# Altium integrated library NSC MiscPower.IntLib: 1417 symbols (part 14 of 39)
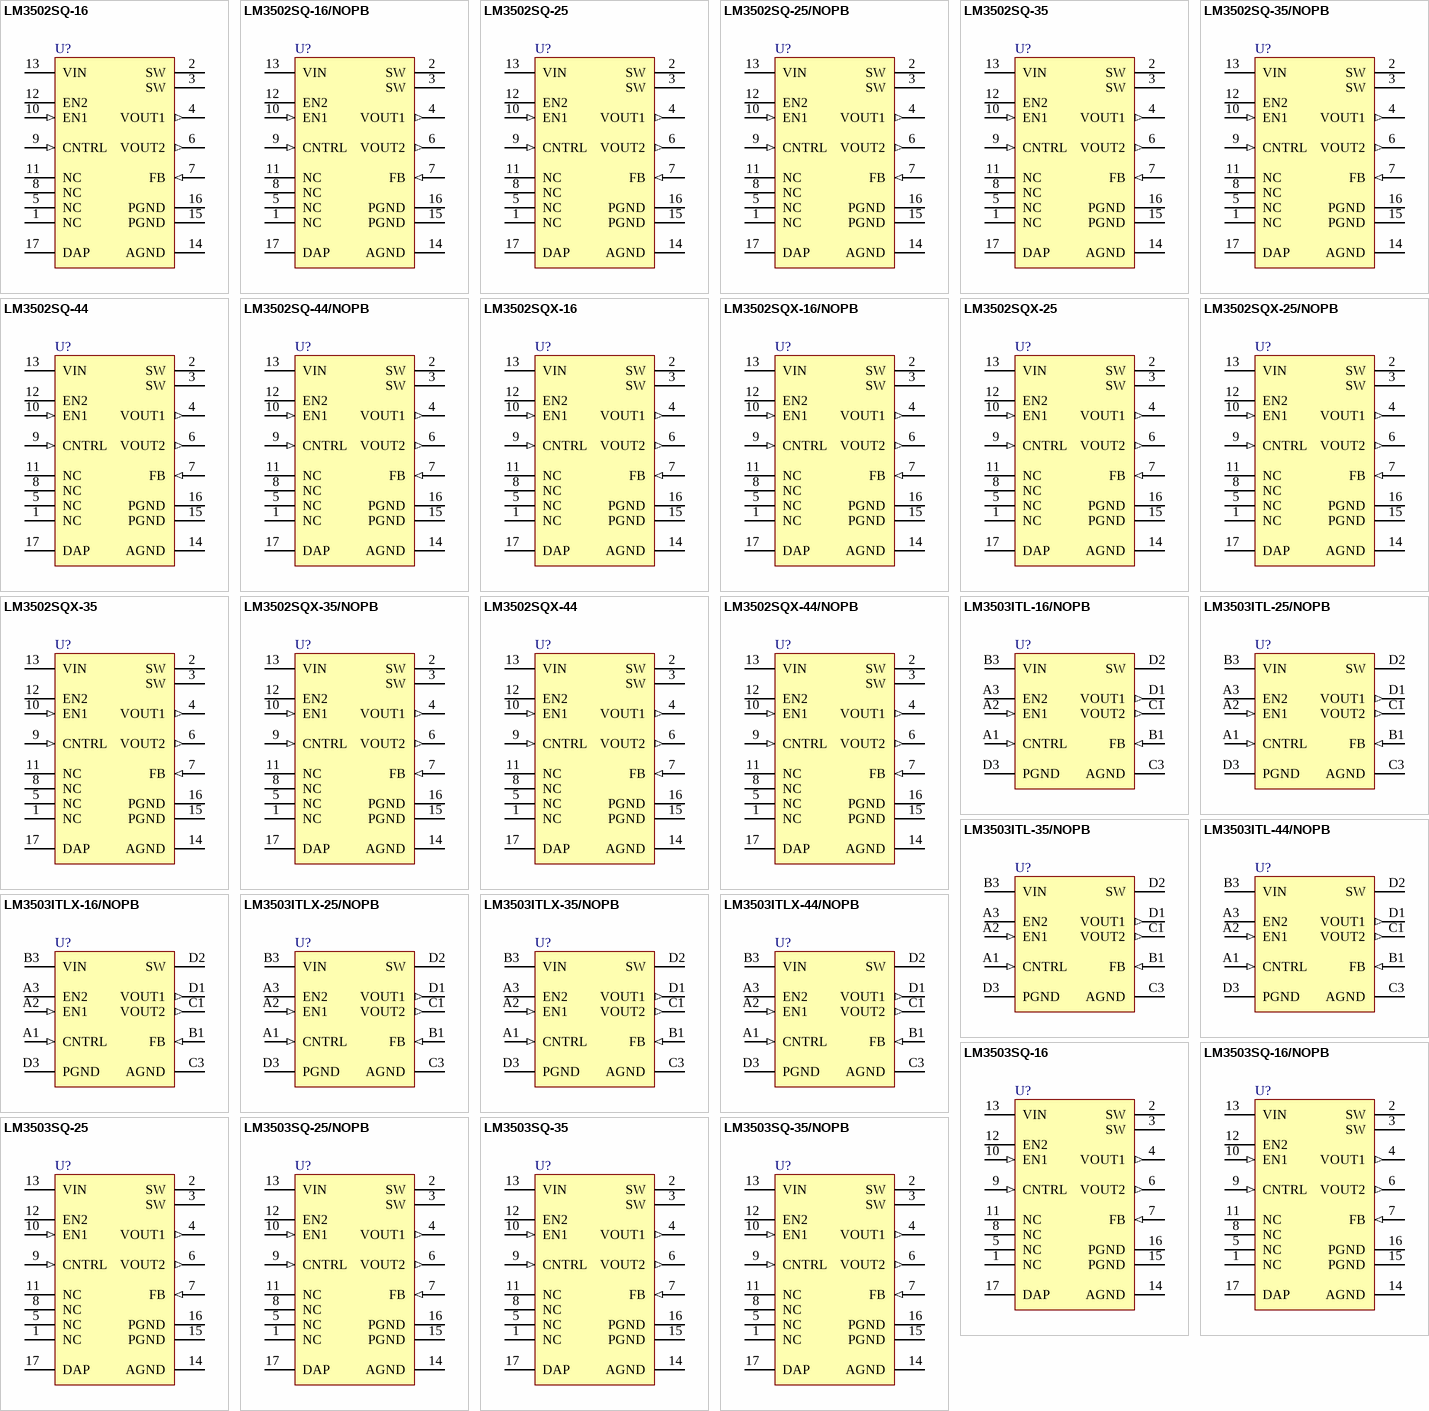
[diagram p64: symbols LM3502SQ-16 to LM3503SQ-35/NOPB]

## LM3503SQ-35/NOPB
designator U?
Dual-Display Constant Current LED Driver with Analog Brightness Control, 16-pin LLP, Pb-Free; PartNumber: LM3503SQ-35/NOPB; Manufacturer: National Semiconductor; PackageTopMarking: NS*UZXYTT*L00047B; PowerWise: Y; CompType: MiscPower; Published: 1-Mar-2010; DatasheetVersion: Aug-2006; PackageVersion: revA, Oct-2003; PackageReference: SQA16A; Publisher: Altium Limited; PackageDescription: LLP, Plastic, Quad, 4 x 4 x 0.8mm Body, 16 Lead, 0.5mm Pitch, No Pullback; Supplier 1: Digi-Key; Supplier Part Number 1: LM3503SQ-35TR-ND; Supplier 2: Digi-Key; Supplier Part Number 2: LM3503SQ-35CT-ND; Supplier 3: Digi-Key; Supplier Part Number 3: LM3503SQ-35DKR-ND; RoHS: Y; PinCount: 16; ComponentLink1Description: LM3503 Datasheet; ComponentLink1URL: http://www.national.com/ds/LM/LM3503.pdf; ComponentLink2Description: LM3503 Web Page; ComponentLink2URL: http://www.national.com/pf/LM/LM3503.html; ComponentLink3Description: SQA16A Package Page; ComponentLink3URL: http://www.national.com/packaging/folders/sqa16a.html
footprint SQA16A (QFN, 16-Leads, Body 4x4mm, Pitch 0.5mm, NSC Recommended)
pins: 1 NC, 2 SW (power), 3 SW (power), 4 VOUT1 (out), 5 NC, 6 VOUT2 (out), 7 FB (in), 8 NC, 9 CNTRL (in), 10 EN1 (in), 11 NC, 12 EN2, 13 VIN (power), 14 AGND (power), 15 PGND (power), 16 PGND (power), 17 DAP (power)

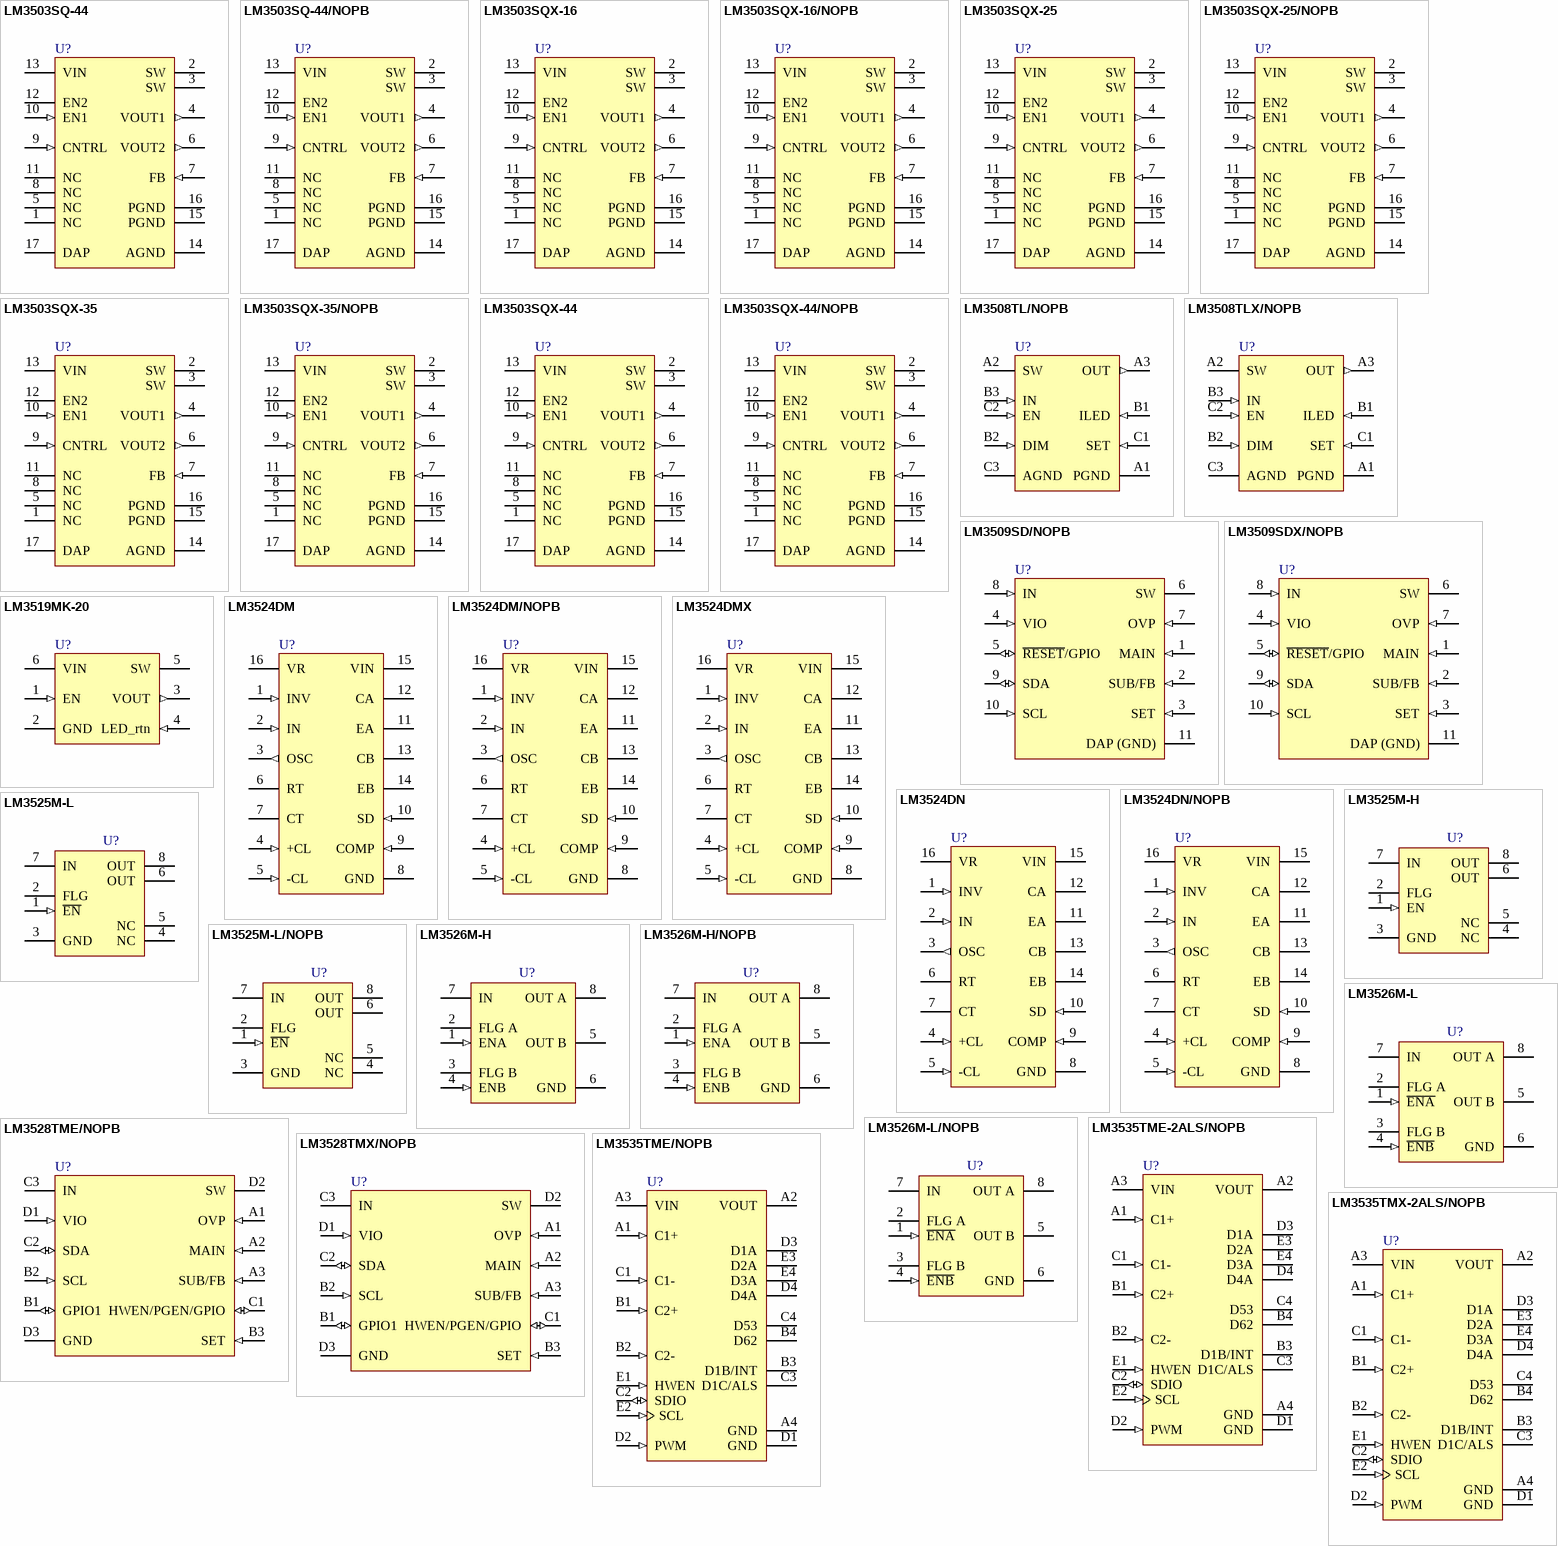
[diagram p15: symbols LM3503SQ-44 to LM3535TMX-2ALS/NOPB]

## LM3503SQ-44
designator U?
Dual-Display Constant Current LED Driver with Analog Brightness Control, 16-pin LLP; PartNumber: LM3503SQ-44; Manufacturer: National Semiconductor; PackageTopMarking: NS*UZXYTT*L00053B; PowerWise: Y; CompType: MiscPower; Published: 4-Dec-2008; DatasheetVersion: Aug-2006; PackageVersion: revA, Oct-2003; PackageReference: SQA16A; Publisher: Altium Limited; PackageDescription: LLP, Plastic, Quad, 4 x 4 x 0.8mm Body, 16 Lead, 0.5mm Pitch, No Pullback; Supplier 1: Farnell; Supplier Part Number 1: 1312579; RoHS: N; PinCount: 16; ComponentLink1Description: LM3503 Datasheet; ComponentLink1URL: http://www.national.com/ds/LM/LM3503.pdf; ComponentLink2Description: LM3503 Web Page; ComponentLink2URL: http://www.national.com/pf/LM/LM3503.html; ComponentLink3Description: SQA16A Package Page; ComponentLink3URL: http://www.national.com/packaging/folders/sqa16a.html
footprint SQA16A (QFN, 16-Leads, Body 4x4mm, Pitch 0.5mm, NSC Recommended)
pins: 1 NC, 2 SW (power), 3 SW (power), 4 VOUT1 (out), 5 NC, 6 VOUT2 (out), 7 FB (in), 8 NC, 9 CNTRL (in), 10 EN1 (in), 11 NC, 12 EN2, 13 VIN (power), 14 AGND (power), 15 PGND (power), 16 PGND (power), 17 DAP (power)

## LM3503SQ-44/NOPB
designator U?
Dual-Display Constant Current LED Driver with Analog Brightness Control, 16-pin LLP, Pb-Free; PartNumber: LM3503SQ-44/NOPB; Manufacturer: National Semiconductor; PackageTopMarking: NS*UZXYTT*L00053B; PowerWise: Y; CompType: MiscPower; Published: 1-Mar-2010; DatasheetVersion: Aug-2006; PackageVersion: revA, Oct-2003; PackageReference: SQA16A; Publisher: Altium Limited; PackageDescription: LLP, Plastic, Quad, 4 x 4 x 0.8mm Body, 16 Lead, 0.5mm Pitch, No Pullback; Supplier 1: Digi-Key; Supplier Part Number 1: LM3503SQ-44TR-ND; Supplier 2: Digi-Key; Supplier Part Number 2: LM3503SQ-44CT-ND; Supplier 3: Digi-Key; Supplier Part Number 3: LM3503SQ-44DKR-ND; RoHS: Y; PinCount: 16; ComponentLink1Description: LM3503 Datasheet; ComponentLink1URL: http://www.national.com/ds/LM/LM3503.pdf; ComponentLink2Description: LM3503 Web Page; ComponentLink2URL: http://www.national.com/pf/LM/LM3503.html; ComponentLink3Description: SQA16A Package Page; ComponentLink3URL: http://www.national.com/packaging/folders/sqa16a.html
footprint SQA16A (QFN, 16-Leads, Body 4x4mm, Pitch 0.5mm, NSC Recommended)
pins: 1 NC, 2 SW (power), 3 SW (power), 4 VOUT1 (out), 5 NC, 6 VOUT2 (out), 7 FB (in), 8 NC, 9 CNTRL (in), 10 EN1 (in), 11 NC, 12 EN2, 13 VIN (power), 14 AGND (power), 15 PGND (power), 16 PGND (power), 17 DAP (power)

## LM3503SQX-16
designator U?
Dual-Display Constant Current LED Driver with Analog Brightness Control, 16-pin LLP; PartNumber: LM3503SQX-16; Manufacturer: National Semiconductor; PackageTopMarking: NS*UZXYTT*L00045B; PowerWise: Y; CompType: MiscPower; Published: 1-Mar-2010; DatasheetVersion: Aug-2006; PackageVersion: revA, Oct-2003; PackageReference: SQA16A; Publisher: Altium Limited; PackageDescription: LLP, Plastic, Quad, 4 x 4 x 0.8mm Body, 16 Lead, 0.5mm Pitch, No Pullback; RoHS: N; PinCount: 16; ComponentLink1Description: LM3503 Datasheet; ComponentLink1URL: http://www.national.com/ds/LM/LM3503.pdf; ComponentLink2Description: LM3503 Web Page; ComponentLink2URL: http://www.national.com/pf/LM/LM3503.html; ComponentLink3Description: SQA16A Package Page; ComponentLink3URL: http://www.national.com/packaging/folders/sqa16a.html
footprint SQA16A (QFN, 16-Leads, Body 4x4mm, Pitch 0.5mm, NSC Recommended)
pins: 1 NC, 2 SW (power), 3 SW (power), 4 VOUT1 (out), 5 NC, 6 VOUT2 (out), 7 FB (in), 8 NC, 9 CNTRL (in), 10 EN1 (in), 11 NC, 12 EN2, 13 VIN (power), 14 AGND (power), 15 PGND (power), 16 PGND (power), 17 DAP (power)

## LM3503SQX-16/NOPB
designator U?
Dual-Display Constant Current LED Driver with Analog Brightness Control, 16-pin LLP, Pb-Free; PartNumber: LM3503SQX-16/NOPB; Manufacturer: National Semiconductor; PackageTopMarking: NS*UZXYTT*L00045B; PowerWise: Y; CompType: MiscPower; Published: 1-Mar-2010; DatasheetVersion: Aug-2006; PackageVersion: revA, Oct-2003; PackageReference: SQA16A; Publisher: Altium Limited; PackageDescription: LLP, Plastic, Quad, 4 x 4 x 0.8mm Body, 16 Lead, 0.5mm Pitch, No Pullback; Supplier 1: Digi-Key; Supplier Part Number 1: LM3503SQX-16-ND; RoHS: Y; PinCount: 16; ComponentLink1Description: LM3503 Datasheet; ComponentLink1URL: http://www.national.com/ds/LM/LM3503.pdf; ComponentLink2Description: LM3503 Web Page; ComponentLink2URL: http://www.national.com/pf/LM/LM3503.html; ComponentLink3Description: SQA16A Package Page; ComponentLink3URL: http://www.national.com/packaging/folders/sqa16a.html
footprint SQA16A (QFN, 16-Leads, Body 4x4mm, Pitch 0.5mm, NSC Recommended)
pins: 1 NC, 2 SW (power), 3 SW (power), 4 VOUT1 (out), 5 NC, 6 VOUT2 (out), 7 FB (in), 8 NC, 9 CNTRL (in), 10 EN1 (in), 11 NC, 12 EN2, 13 VIN (power), 14 AGND (power), 15 PGND (power), 16 PGND (power), 17 DAP (power)

## LM3503SQX-25
designator U?
Dual-Display Constant Current LED Driver with Analog Brightness Control, 16-pin LLP; PartNumber: LM3503SQX-25; Manufacturer: National Semiconductor; PackageTopMarking: NS*UZXYTT*L00046B; PowerWise: Y; CompType: MiscPower; Published: 1-Mar-2010; DatasheetVersion: Aug-2006; PackageVersion: revA, Oct-2003; PackageReference: SQA16A; Publisher: Altium Limited; PackageDescription: LLP, Plastic, Quad, 4 x 4 x 0.8mm Body, 16 Lead, 0.5mm Pitch, No Pullback; RoHS: N; PinCount: 16; ComponentLink1Description: LM3503 Datasheet; ComponentLink1URL: http://www.national.com/ds/LM/LM3503.pdf; ComponentLink2Description: LM3503 Web Page; ComponentLink2URL: http://www.national.com/pf/LM/LM3503.html; ComponentLink3Description: SQA16A Package Page; ComponentLink3URL: http://www.national.com/packaging/folders/sqa16a.html
footprint SQA16A (QFN, 16-Leads, Body 4x4mm, Pitch 0.5mm, NSC Recommended)
pins: 1 NC, 2 SW (power), 3 SW (power), 4 VOUT1 (out), 5 NC, 6 VOUT2 (out), 7 FB (in), 8 NC, 9 CNTRL (in), 10 EN1 (in), 11 NC, 12 EN2, 13 VIN (power), 14 AGND (power), 15 PGND (power), 16 PGND (power), 17 DAP (power)

## LM3503SQX-25/NOPB
designator U?
Dual-Display Constant Current LED Driver with Analog Brightness Control, 16-pin LLP, Pb-Free; PartNumber: LM3503SQX-25/NOPB; Manufacturer: National Semiconductor; PackageTopMarking: NS*UZXYTT*L00046B; PowerWise: Y; CompType: MiscPower; Published: 1-Mar-2010; DatasheetVersion: Aug-2006; PackageVersion: revA, Oct-2003; PackageReference: SQA16A; Publisher: Altium Limited; PackageDescription: LLP, Plastic, Quad, 4 x 4 x 0.8mm Body, 16 Lead, 0.5mm Pitch, No Pullback; Supplier 1: Digi-Key; Supplier Part Number 1: LM3503SQX-25-ND; RoHS: Y; PinCount: 16; ComponentLink1Description: LM3503 Datasheet; ComponentLink1URL: http://www.national.com/ds/LM/LM3503.pdf; ComponentLink2Description: LM3503 Web Page; ComponentLink2URL: http://www.national.com/pf/LM/LM3503.html; ComponentLink3Description: SQA16A Package Page; ComponentLink3URL: http://www.national.com/packaging/folders/sqa16a.html
footprint SQA16A (QFN, 16-Leads, Body 4x4mm, Pitch 0.5mm, NSC Recommended)
pins: 1 NC, 2 SW (power), 3 SW (power), 4 VOUT1 (out), 5 NC, 6 VOUT2 (out), 7 FB (in), 8 NC, 9 CNTRL (in), 10 EN1 (in), 11 NC, 12 EN2, 13 VIN (power), 14 AGND (power), 15 PGND (power), 16 PGND (power), 17 DAP (power)

## LM3503SQX-35
designator U?
Dual-Display Constant Current LED Driver with Analog Brightness Control, 16-pin LLP; PartNumber: LM3503SQX-35; Manufacturer: National Semiconductor; PackageTopMarking: NS*UZXYTT*L00047B; PowerWise: Y; CompType: MiscPower; Published: 1-Mar-2010; DatasheetVersion: Aug-2006; PackageVersion: revA, Oct-2003; PackageReference: SQA16A; Publisher: Altium Limited; PackageDescription: LLP, Plastic, Quad, 4 x 4 x 0.8mm Body, 16 Lead, 0.5mm Pitch, No Pullback; RoHS: N; PinCount: 16; ComponentLink1Description: LM3503 Datasheet; ComponentLink1URL: http://www.national.com/ds/LM/LM3503.pdf; ComponentLink2Description: LM3503 Web Page; ComponentLink2URL: http://www.national.com/pf/LM/LM3503.html; ComponentLink3Description: SQA16A Package Page; ComponentLink3URL: http://www.national.com/packaging/folders/sqa16a.html
footprint SQA16A (QFN, 16-Leads, Body 4x4mm, Pitch 0.5mm, NSC Recommended)
pins: 1 NC, 2 SW (power), 3 SW (power), 4 VOUT1 (out), 5 NC, 6 VOUT2 (out), 7 FB (in), 8 NC, 9 CNTRL (in), 10 EN1 (in), 11 NC, 12 EN2, 13 VIN (power), 14 AGND (power), 15 PGND (power), 16 PGND (power), 17 DAP (power)

## LM3503SQX-35/NOPB
designator U?
Dual-Display Constant Current LED Driver with Analog Brightness Control, 16-pin LLP, Pb-Free; PartNumber: LM3503SQX-35/NOPB; Manufacturer: National Semiconductor; PackageTopMarking: NS*UZXYTT*L00047B; PowerWise: Y; CompType: MiscPower; Published: 1-Mar-2010; DatasheetVersion: Aug-2006; PackageVersion: revA, Oct-2003; PackageReference: SQA16A; Publisher: Altium Limited; PackageDescription: LLP, Plastic, Quad, 4 x 4 x 0.8mm Body, 16 Lead, 0.5mm Pitch, No Pullback; Supplier 1: Digi-Key; Supplier Part Number 1: LM3503SQX-35-ND; RoHS: Y; PinCount: 16; ComponentLink1Description: LM3503 Datasheet; ComponentLink1URL: http://www.national.com/ds/LM/LM3503.pdf; ComponentLink2Description: LM3503 Web Page; ComponentLink2URL: http://www.national.com/pf/LM/LM3503.html; ComponentLink3Description: SQA16A Package Page; ComponentLink3URL: http://www.national.com/packaging/folders/sqa16a.html
footprint SQA16A (QFN, 16-Leads, Body 4x4mm, Pitch 0.5mm, NSC Recommended)
pins: 1 NC, 2 SW (power), 3 SW (power), 4 VOUT1 (out), 5 NC, 6 VOUT2 (out), 7 FB (in), 8 NC, 9 CNTRL (in), 10 EN1 (in), 11 NC, 12 EN2, 13 VIN (power), 14 AGND (power), 15 PGND (power), 16 PGND (power), 17 DAP (power)

## LM3503SQX-44
designator U?
Dual-Display Constant Current LED Driver with Analog Brightness Control, 16-pin LLP; PartNumber: LM3503SQX-44; Manufacturer: National Semiconductor; PackageTopMarking: NS*UZXYTT*L00053B; PowerWise: Y; CompType: MiscPower; Published: 1-Mar-2010; DatasheetVersion: Aug-2006; PackageVersion: revA, Oct-2003; PackageReference: SQA16A; Publisher: Altium Limited; PackageDescription: LLP, Plastic, Quad, 4 x 4 x 0.8mm Body, 16 Lead, 0.5mm Pitch, No Pullback; RoHS: N; PinCount: 16; ComponentLink1Description: LM3503 Datasheet; ComponentLink1URL: http://www.national.com/ds/LM/LM3503.pdf; ComponentLink2Description: LM3503 Web Page; ComponentLink2URL: http://www.national.com/pf/LM/LM3503.html; ComponentLink3Description: SQA16A Package Page; ComponentLink3URL: http://www.national.com/packaging/folders/sqa16a.html
footprint SQA16A (QFN, 16-Leads, Body 4x4mm, Pitch 0.5mm, NSC Recommended)
pins: 1 NC, 2 SW (power), 3 SW (power), 4 VOUT1 (out), 5 NC, 6 VOUT2 (out), 7 FB (in), 8 NC, 9 CNTRL (in), 10 EN1 (in), 11 NC, 12 EN2, 13 VIN (power), 14 AGND (power), 15 PGND (power), 16 PGND (power), 17 DAP (power)

## LM3503SQX-44/NOPB
designator U?
Dual-Display Constant Current LED Driver with Analog Brightness Control, 16-pin LLP, Pb-Free; PartNumber: LM3503SQX-44/NOPB; Manufacturer: National Semiconductor; PackageTopMarking: NS*UZXYTT*L00053B; PowerWise: Y; CompType: MiscPower; Published: 1-Mar-2010; DatasheetVersion: Aug-2006; PackageVersion: revA, Oct-2003; PackageReference: SQA16A; Publisher: Altium Limited; PackageDescription: LLP, Plastic, Quad, 4 x 4 x 0.8mm Body, 16 Lead, 0.5mm Pitch, No Pullback; RoHS: Y; PinCount: 16; ComponentLink1Description: LM3503 Datasheet; ComponentLink1URL: http://www.national.com/ds/LM/LM3503.pdf; ComponentLink2Description: LM3503 Web Page; ComponentLink2URL: http://www.national.com/pf/LM/LM3503.html; ComponentLink3Description: SQA16A Package Page; ComponentLink3URL: http://www.national.com/packaging/folders/sqa16a.html
footprint SQA16A (QFN, 16-Leads, Body 4x4mm, Pitch 0.5mm, NSC Recommended)
pins: 1 NC, 2 SW (power), 3 SW (power), 4 VOUT1 (out), 5 NC, 6 VOUT2 (out), 7 FB (in), 8 NC, 9 CNTRL (in), 10 EN1 (in), 11 NC, 12 EN2, 13 VIN (power), 14 AGND (power), 15 PGND (power), 16 PGND (power), 17 DAP (power)

## LM3508TL/NOPB
designator U?
Synchronous Magnetic Constant Current White LED Driver, 9-pin Micro SMD, Pb-Free; PartNumber: LM3508TL/NOPB; Manufacturer: National Semiconductor; PackageTopMarking: XVD*I 31; PowerWise: Y; CompType: MiscPower; Published: 1-Mar-2010; DatasheetVersion: Mar-2008; PackageVersion: revC, Jan-2004; PackageReference: TLA09AAA; Publisher: Altium Limited; PackageDescription: Thin Micro SMD, 9 Bump (Large), 0.5mm Pitch; Supplier 1: Digi-Key; Supplier Part Number 1: LM3508TLTR-ND; Supplier 2: Digi-Key; Supplier Part Number 2: LM3508TLCT-ND; Supplier 3: Digi-Key; Supplier Part Number 3: LM3508TLDKR-ND; RoHS: Y; PinCount: 9; Code_JEDEC: MO-211-DD; ComponentLink1Description: LM3508 Datasheet; ComponentLink1URL: http://www.national.com/ds/LM/LM3508.pdf; ComponentLink2Description: LM3508 Web Page; ComponentLink2URL: http://www.national.com/pf/LM/LM3508.html; ComponentLink3Description: TLA09AAA Package Page; ComponentLink3URL: http://www.national.com/packaging/folders/tla09aaa.html
footprint TLA09AAA (Micro SMD, 9-Leads, Body 1.52x1.52mm, Pitch 0.5mm, NSC Recommended)
pins: A1 PGND (power), A2 SW (power), A3 OUT (out), B1 ILED (in), B2 DIM (in), B3 IN (in), C1 SET (in), C2 EN (in), C3 AGND (power)

## LM3508TLX/NOPB
designator U?
Synchronous Magnetic Constant Current White LED Driver, 9-pin Micro SMD, Pb-Free; PartNumber: LM3508TLX/NOPB; Manufacturer: National Semiconductor; PackageTopMarking: XVD*I 31; PowerWise: Y; CompType: MiscPower; Published: 1-Mar-2010; DatasheetVersion: Mar-2008; PackageVersion: revC, Jan-2004; PackageReference: TLA09AAA; Publisher: Altium Limited; PackageDescription: Thin Micro SMD, 9 Bump (Large), 0.5mm Pitch; Supplier 1: Digi-Key; Supplier Part Number 1: LM3508TLX-ND; RoHS: Y; PinCount: 9; Code_JEDEC: MO-211-DD; ComponentLink1Description: LM3508 Datasheet; ComponentLink1URL: http://www.national.com/ds/LM/LM3508.pdf; ComponentLink2Description: LM3508 Web Page; ComponentLink2URL: http://www.national.com/pf/LM/LM3508.html; ComponentLink3Description: TLA09AAA Package Page; ComponentLink3URL: http://www.national.com/packaging/folders/tla09aaa.html
footprint TLA09AAA (Micro SMD, 9-Leads, Body 1.52x1.52mm, Pitch 0.5mm, NSC Recommended)
pins: A1 PGND (power), A2 SW (power), A3 OUT (out), B1 ILED (in), B2 DIM (in), B3 IN (in), C1 SET (in), C2 EN (in), C3 AGND (power)

## LM3509SD/NOPB
designator U?
High Efficiency Boost for White LED's and/or OLED Displays with Dual Current Sinks and IC Compatible Brightness Control, 10-pin LLP, Pb-Free; PartNumber: LM3509SD/NOPB; Manufacturer: National Semiconductor; PackageTopMarking: ZXYTT*L3509; PowerWise: Y; CompType: MiscPower; Published: 1-Mar-2010; DatasheetVersion: Mar-2008; PackageVersion: revA, Oct-2003; PackageReference: SDA10A; Publisher: Altium Limited; PackageDescription: LLP, Plastic, Dual, 3 x 3 x 0.8mm Body, 10 Lead, 0.5mm Pitch, No Pullback; Supplier 1: Digi-Key; Supplier Part Number 1: LM3509SDTR-ND; Supplier 2: Digi-Key; Supplier Part Number 2: LM3509SDCT-ND; Supplier 3: Digi-Key; Supplier Part Number 3: LM3509SDDKR-ND; RoHS: Y; PinCount: 10; ComponentLink1Description: LM3509 Datasheet; ComponentLink1URL: http://www.national.com/ds/LM/LM3509.pdf; ComponentLink2Description: LM3509 Web Page; ComponentLink2URL: http://www.national.com/pf/LM/LM3509.html; ComponentLink3Description: SDA10A Package Page; ComponentLink3URL: http://www.national.com/packaging/folders/sda10a.html
footprint SDA10A (SON, 10-Leads, Body 3x3 mm, Pitch 0.5mm, NSC Recommended)
pins: 1 MAIN (in), 2 SUB/FB (in), 3 SET (in), 4 VIO (in), 5 ~{RESET}/GPIO (io), 6 SW (power), 7 OVP (in), 8 IN (in), 9 SDA (io), 10 SCL (in), 11 DAP (GND) (power)

## LM3509SDX/NOPB
designator U?
High Efficiency Boost for White LED's and/or OLED Displays with Dual Current Sinks and IC Compatible Brightness Control, 10-pin LLP, Pb-Free; PartNumber: LM3509SDX/NOPB; Manufacturer: National Semiconductor; PackageTopMarking: ZXYTT*L3509; PowerWise: Y; CompType: MiscPower; Published: 1-Mar-2010; DatasheetVersion: Mar-2008; PackageVersion: revA, Oct-2003; PackageReference: SDA10A; Publisher: Altium Limited; PackageDescription: LLP, Plastic, Dual, 3 x 3 x 0.8mm Body, 10 Lead, 0.5mm Pitch, No Pullback; Supplier 1: Digi-Key; Supplier Part Number 1: LM3509SDX-ND; RoHS: Y; PinCount: 10; ComponentLink1Description: LM3509 Datasheet; ComponentLink1URL: http://www.national.com/ds/LM/LM3509.pdf; ComponentLink2Description: LM3509 Web Page; ComponentLink2URL: http://www.national.com/pf/LM/LM3509.html; ComponentLink3Description: SDA10A Package Page; ComponentLink3URL: http://www.national.com/packaging/folders/sda10a.html
footprint SDA10A (SON, 10-Leads, Body 3x3 mm, Pitch 0.5mm, NSC Recommended)
pins: 1 MAIN (in), 2 SUB/FB (in), 3 SET (in), 4 VIO (in), 5 ~{RESET}/GPIO (io), 6 SW (power), 7 OVP (in), 8 IN (in), 9 SDA (io), 10 SCL (in), 11 DAP (GND) (power)

## LM3519MK-20
designator U?
High Frequency Boost White LED Driver with High-Speed PWM Brightness Control, 6-pin Tiny SOT23; PartNumber: LM3519MK-20; Manufacturer: National Semiconductor; PackageTopMarking: D52B*XTT; PowerWise: Y; CompType: MiscPower; Published: 4-Dec-2008; DatasheetVersion: Sep-2005; PackageVersion: revE, Nov-2008; PackageReference: MK06A; Publisher: Altium Limited; PackageDescription: Molded TSOT, 2.97 x 1.65 x 0.87mm Body, 6 Lead, 0.95mm Pitch; Supplier 1: Farnell; Supplier Part Number 1: 1312717; RoHS: N; PinCount: 6; Code_JEDEC: MO-193-AA; Code_IPC: SOT26A-6; ComponentLink1Description: LM3519 Datasheet; ComponentLink1URL: http://www.national.com/ds/LM/LM3519.pdf; ComponentLink2Description: LM3519 Web Page; ComponentLink2URL: http://www.national.com/pf/LM/LM3519.html; ComponentLink3Description: MK06A Package Page; ComponentLink3URL: http://www.national.com/packaging/folders/mk06a.html
footprint MK06A_N (SOT23, 6-Leads, Body 3.0x1.7mm, Pitch 0.95mm, Lead Span 2.9mm, IPC Medium Density)
footprint MK06A_L (SOT23, 6-Leads, Body 3.0x1.7mm, Pitch 0.95mm, Lead Span 2.9mm, IPC High Density)
footprint MK06A_M (SOT23, 6-Leads, Body 3.0x1.7mm, Pitch 0.95mm, Lead Span 2.9mm, IPC Low Density)
pins: 1 EN (in), 2 GND (power), 3 VOUT (out), 4 LED_rtn (in), 5 SW (power), 6 VIN (power)

## LM3524DM
designator U?
Regulating Pulse Width Modulator, 16-pin Narrow SOIC; PartNumber: LM3524DM; Manufacturer: National Semiconductor; PackageTopMarking: NSUZXYTTE#*LM3524DM; PowerWise: N; CompType: MiscPower; Published: 4-Dec-2008; DatasheetVersion: May-2008; PackageVersion: revJ, Aug-1995; PackageReference: M16A; Publisher: Altium Limited; PackageDescription: Molded Package, SO, .150in Wide, 16 Lead; RoHS: N; PinCount: 16; Code_JEDEC: MS-012-AC; Code_IPC: SOIC127P600-16; ComponentLink1Description: LM3524D Datasheet; ComponentLink1URL: http://www.national.com/ds/LM/LM3524D.pdf; ComponentLink2Description: LM3524D Web Page; ComponentLink2URL: http://www.national.com/pf/LM/LM3524D.html; ComponentLink3Description: M16A Package Page; ComponentLink3URL: http://www.national.com/packaging/folders/m16a.html
footprint M16A_N (SOIC, 16-Leads, Body 9.9x3.9mm, Pitch 1.27mm, IPC Medium Density)
footprint M16A_L (SOIC, 16-Leads, Body 9.9x3.9mm, Pitch 1.27mm, IPC High Density)
footprint M16A_M (SOIC, 16-Leads, Body 9.9x3.9mm, Pitch 1.27mm, IPC Low Density)
pins: 1 INV (in), 2 IN (in), 3 OSC (out), 4 +CL (in), 5 -CL (in), 6 RT, 7 CT, 8 GND (power), 9 COMP (in), 10 SD (in), 11 EA, 12 CA, 13 CB, 14 EB, 15 VIN (power), 16 VR (power)

## LM3524DM/NOPB
designator U?
Regulating Pulse Width Modulator, 16-pin Narrow SOIC, Pb-Free; PartNumber: LM3524DM/NOPB; Manufacturer: National Semiconductor; PackageTopMarking: NSUZXYTTE#*LM3524DM; PowerWise: N; CompType: MiscPower; Published: 1-Mar-2010; DatasheetVersion: May-2008; PackageVersion: revJ, Aug-1995; PackageReference: M16A; Publisher: Altium Limited; PackageDescription: Molded Package, SO, .150in Wide, 16 Lead; Supplier 1: Digi-Key; Supplier Part Number 1: LM3524DM-ND; Supplier 2: Farnell; Supplier Part Number 2: 1469254; RoHS: Y; PinCount: 16; Code_JEDEC: MS-012-AC; Code_IPC: SOIC127P600-16; ComponentLink1Description: LM3524D Datasheet; ComponentLink1URL: http://www.national.com/ds/LM/LM3524D.pdf; ComponentLink2Description: LM3524D Web Page; ComponentLink2URL: http://www.national.com/pf/LM/LM3524D.html; ComponentLink3Description: M16A Package Page; ComponentLink3URL: http://www.national.com/packaging/folders/m16a.html
footprint M16A_N (SOIC, 16-Leads, Body 9.9x3.9mm, Pitch 1.27mm, IPC Medium Density)
footprint M16A_L (SOIC, 16-Leads, Body 9.9x3.9mm, Pitch 1.27mm, IPC High Density)
footprint M16A_M (SOIC, 16-Leads, Body 9.9x3.9mm, Pitch 1.27mm, IPC Low Density)
pins: 1 INV (in), 2 IN (in), 3 OSC (out), 4 +CL (in), 5 -CL (in), 6 RT, 7 CT, 8 GND (power), 9 COMP (in), 10 SD (in), 11 EA, 12 CA, 13 CB, 14 EB, 15 VIN (power), 16 VR (power)

## LM3524DMX
designator U?
Regulating Pulse Width Modulator, 16-pin Narrow SOIC; PartNumber: LM3524DMX; Manufacturer: National Semiconductor; PackageTopMarking: NSUZXYTTE#*LM3524DM; PowerWise: N; CompType: MiscPower; Published: 1-Mar-2010; DatasheetVersion: May-2008; PackageVersion: revJ, Aug-1995; PackageReference: M16A; Publisher: Altium Limited; PackageDescription: Molded Package, SO, .150in Wide, 16 Lead; RoHS: N; PinCount: 16; Code_JEDEC: MS-012-AC; Code_IPC: SOIC127P600-16; ComponentLink1Description: LM3524D Datasheet; ComponentLink1URL: http://www.national.com/ds/LM/LM3524D.pdf; ComponentLink2Description: LM3524D Web Page; ComponentLink2URL: http://www.national.com/pf/LM/LM3524D.html; ComponentLink3Description: M16A Package Page; ComponentLink3URL: http://www.national.com/packaging/folders/m16a.html
footprint M16A_N (SOIC, 16-Leads, Body 9.9x3.9mm, Pitch 1.27mm, IPC Medium Density)
footprint M16A_L (SOIC, 16-Leads, Body 9.9x3.9mm, Pitch 1.27mm, IPC High Density)
footprint M16A_M (SOIC, 16-Leads, Body 9.9x3.9mm, Pitch 1.27mm, IPC Low Density)
pins: 1 INV (in), 2 IN (in), 3 OSC (out), 4 +CL (in), 5 -CL (in), 6 RT, 7 CT, 8 GND (power), 9 COMP (in), 10 SD (in), 11 EA, 12 CA, 13 CB, 14 EB, 15 VIN (power), 16 VR (power)

## LM3524DN
designator U?
Regulating Pulse Width Modulator, 16-pin MDIP; PartNumber: LM3524DN; Manufacturer: National Semiconductor; PackageTopMarking: NSUZXYYTTE#*LM3524DN; PowerWise: N; CompType: MiscPower; Published: 4-Dec-2008; DatasheetVersion: May-2008; PackageVersion: revG, May-2006; PackageReference: N16E; Publisher: Altium Limited; PackageDescription: MDIP, .750 x .250 x .130in, 16 Lead, .100in Pitch; Supplier 1: Farnell; Supplier Part Number 1: 9488162; RoHS: N; PinCount: 16; Code_JEDEC: MS-001-BB; ComponentLink1Description: LM3524D Datasheet; ComponentLink1URL: http://www.national.com/ds/LM/LM3524D.pdf; ComponentLink2Description: LM3524D Web Page; ComponentLink2URL: http://www.national.com/pf/LM/LM3524D.html; ComponentLink3Description: N16E Package Page; ComponentLink3URL: http://www.national.com/packaging/folders/n16e.html
footprint N16E (DIP, 16-Leads, Row Spacing 7.62mm, Pitch 2.54mm, Body 19.3x6.35mm)
pins: 1 INV (in), 2 IN (in), 3 OSC (out), 4 +CL (in), 5 -CL (in), 6 RT, 7 CT, 8 GND (power), 9 COMP (in), 10 SD (in), 11 EA, 12 CA, 13 CB, 14 EB, 15 VIN (power), 16 VR (power)

## LM3524DN/NOPB
designator U?
Regulating Pulse Width Modulator, 16-pin MDIP, Pb-Free; PartNumber: LM3524DN/NOPB; Manufacturer: National Semiconductor; PackageTopMarking: NSUZXYYTTE#*LM3524DN; PowerWise: N; CompType: MiscPower; Published: 1-Mar-2010; DatasheetVersion: May-2008; PackageVersion: revG, May-2006; PackageReference: N16E; Publisher: Altium Limited; PackageDescription: MDIP, .750 x .250 x .130in, 16 Lead, .100in Pitch; Supplier 1: Digi-Key; Supplier Part Number 1: LM3524DN-ND; RoHS: Y; PinCount: 16; Code_JEDEC: MS-001-BB; ComponentLink1Description: LM3524D Datasheet; ComponentLink1URL: http://www.national.com/ds/LM/LM3524D.pdf; ComponentLink2Description: LM3524D Web Page; ComponentLink2URL: http://www.national.com/pf/LM/LM3524D.html; ComponentLink3Description: N16E Package Page; ComponentLink3URL: http://www.national.com/packaging/folders/n16e.html
footprint N16E (DIP, 16-Leads, Row Spacing 7.62mm, Pitch 2.54mm, Body 19.3x6.35mm)
pins: 1 INV (in), 2 IN (in), 3 OSC (out), 4 +CL (in), 5 -CL (in), 6 RT, 7 CT, 8 GND (power), 9 COMP (in), 10 SD (in), 11 EA, 12 CA, 13 CB, 14 EB, 15 VIN (power), 16 VR (power)

## LM3525M-H
designator U?
Single Port USB Power Switch and Over-Current Protection, 8-pin Narrow SOIC; PartNumber: LM3525M-H; Manufacturer: National Semiconductor; PackageTopMarking: NSZXTT*3525*M-H; PowerWise: N; CompType: MiscPower; Published: 4-Dec-2008; DatasheetVersion: Mar-2005; PackageVersion: revM, May-2009; PackageReference: M08A; Publisher: Altium Limited; PackageDescription: SOIC Narrow, 4.9 x 3.9 x 1.45mm, 8 Lead, 1.27mm Pitch; Supplier 1: Farnell; Supplier Part Number 1: 9486330; RoHS: N; PinCount: 8; Code_JEDEC: MS-012-AA; Code_IPC: SOIC127P600-8; ComponentLink1Description: LM3525 Datasheet; ComponentLink1URL: http://www.national.com/ds/LM/LM3525.pdf; ComponentLink2Description: LM3525 Web Page; ComponentLink2URL: http://www.national.com/pf/LM/LM3525.html; ComponentLink3Description: M08A Package Page; ComponentLink3URL: http://www.national.com/packaging/folders/m08a.html
footprint M08A_N (SOIC, 8-Leads, Body 4.9x3.9mm, Pitch 1.27mm, IPC Medium Density)
footprint M08A_L (SOIC, 8-Leads, Body 4.9x3.9mm, Pitch 1.27mm, IPC High Density)
footprint M08A_M (SOIC, 8-Leads, Body 4.9x3.9mm, Pitch 1.27mm, IPC Low Density)
pins: 1 EN (in), 2 FLG (oc), 3 GND (power), 4 NC, 5 NC, 6 OUT (power), 7 IN (power), 8 OUT (power)

## LM3525M-L
designator U?
Single Port USB Power Switch and Over-Current Protection, 8-pin Narrow SOIC; PartNumber: LM3525M-L; Manufacturer: National Semiconductor; PackageTopMarking: NSZXTT*3525*M-L; PowerWise: N; CompType: MiscPower; Published: 4-Dec-2008; DatasheetVersion: Mar-2005; PackageVersion: revM, May-2009; PackageReference: M08A; Publisher: Altium Limited; PackageDescription: SOIC Narrow, 4.9 x 3.9 x 1.45mm, 8 Lead, 1.27mm Pitch; Supplier 1: Farnell; Supplier Part Number 1: 9486348; RoHS: N; PinCount: 8; Code_JEDEC: MS-012-AA; Code_IPC: SOIC127P600-8; ComponentLink1Description: LM3525 Datasheet; ComponentLink1URL: http://www.national.com/ds/LM/LM3525.pdf; ComponentLink2Description: LM3525 Web Page; ComponentLink2URL: http://www.national.com/pf/LM/LM3525.html; ComponentLink3Description: M08A Package Page; ComponentLink3URL: http://www.national.com/packaging/folders/m08a.html
footprint M08A_N (SOIC, 8-Leads, Body 4.9x3.9mm, Pitch 1.27mm, IPC Medium Density)
footprint M08A_L (SOIC, 8-Leads, Body 4.9x3.9mm, Pitch 1.27mm, IPC High Density)
footprint M08A_M (SOIC, 8-Leads, Body 4.9x3.9mm, Pitch 1.27mm, IPC Low Density)
pins: 1 ~{EN} (in), 2 FLG (oc), 3 GND (power), 4 NC, 5 NC, 6 OUT (power), 7 IN (power), 8 OUT (power)

## LM3525M-L/NOPB
designator U?
Single Port USB Power Switch and Over-current Protection, 8-pin Narrow SOIC, Pb-Free; PartNumber: LM3525M-L/NOPB; Manufacturer: National Semiconductor; PackageTopMarking: NSZXTT*3525*M-L; PowerWise: N; CompType: MiscPower; Published: 1-Mar-2010; DatasheetVersion: Mar-2005; PackageVersion: revM, May-2009; PackageReference: M08A; Publisher: Altium Limited; PackageDescription: SOIC Narrow, 4.9 x 3.9 x 1.45mm, 8 Lead, 1.27mm Pitch; Supplier 1: Digi-Key; Supplier Part Number 1: LM3525M-L-ND; RoHS: Y; PinCount: 8; Code_JEDEC: MS-012-AA; Code_IPC: SOIC127P600-8; ComponentLink1Description: LM3525 Datasheet; ComponentLink1URL: http://www.national.com/ds/LM/LM3525.pdf; ComponentLink2Description: LM3525 Web Page; ComponentLink2URL: http://www.national.com/pf/LM/LM3525.html; ComponentLink3Description: M08A Package Page; ComponentLink3URL: http://www.national.com/packaging/folders/m08a.html
footprint M08A_N (SOIC, 8-Leads, Body 4.9x3.9mm, Pitch 1.27mm, IPC Medium Density)
footprint M08A_L (SOIC, 8-Leads, Body 4.9x3.9mm, Pitch 1.27mm, IPC High Density)
footprint M08A_M (SOIC, 8-Leads, Body 4.9x3.9mm, Pitch 1.27mm, IPC Low Density)
pins: 1 ~{EN} (in), 2 FLG (oc), 3 GND (power), 4 NC, 5 NC, 6 OUT (power), 7 IN (power), 8 OUT (power)

## LM3526M-H
designator U?
Dual Port USB Power Switch and Over-Current Protection, 8-pin Narrow SOIC; PartNumber: LM3526M-H; Manufacturer: National Semiconductor; PackageTopMarking: NSZXTT*3526*M-H; PowerWise: N; CompType: MiscPower; Published: 4-Dec-2008; DatasheetVersion: Mar-2005; PackageVersion: revM, May-2009; PackageReference: M08A; Publisher: Altium Limited; PackageDescription: SOIC Narrow, 4.9 x 3.9 x 1.45mm, 8 Lead, 1.27mm Pitch; RoHS: N; PinCount: 8; Code_JEDEC: MS-012-AA; Code_IPC: SOIC127P600-8; ComponentLink1Description: LM3526 Datasheet; ComponentLink1URL: http://www.national.com/ds/LM/LM3526.pdf; ComponentLink2Description: LM3526 Web Page; ComponentLink2URL: http://www.national.com/pf/LM/LM3526.html; ComponentLink3Description: M08A Package Page; ComponentLink3URL: http://www.national.com/packaging/folders/m08a.html
footprint M08A_N (SOIC, 8-Leads, Body 4.9x3.9mm, Pitch 1.27mm, IPC Medium Density)
footprint M08A_L (SOIC, 8-Leads, Body 4.9x3.9mm, Pitch 1.27mm, IPC High Density)
footprint M08A_M (SOIC, 8-Leads, Body 4.9x3.9mm, Pitch 1.27mm, IPC Low Density)
pins: 1 ENA (in), 2 FLG A (oc), 3 FLG B (oc), 4 ENB (in), 5 OUT B (power), 6 GND (power), 7 IN (power), 8 OUT A (power)

## LM3526M-H/NOPB
designator U?
Dual Port USB Power Switch and Over-current Protection, 8-pin Narrow SOIC, Pb-Free; PartNumber: LM3526M-H/NOPB; Manufacturer: National Semiconductor; PackageTopMarking: NSZXTT*3526*M-H; PowerWise: N; CompType: MiscPower; Published: 1-Mar-2010; DatasheetVersion: Mar-2005; PackageVersion: revM, May-2009; PackageReference: M08A; Publisher: Altium Limited; PackageDescription: SOIC Narrow, 4.9 x 3.9 x 1.45mm, 8 Lead, 1.27mm Pitch; Supplier 1: Digi-Key; Supplier Part Number 1: LM3526M-H-ND; RoHS: Y; PinCount: 8; Code_JEDEC: MS-012-AA; Code_IPC: SOIC127P600-8; ComponentLink1Description: LM3526 Datasheet; ComponentLink1URL: http://www.national.com/ds/LM/LM3526.pdf; ComponentLink2Description: LM3526 Web Page; ComponentLink2URL: http://www.national.com/pf/LM/LM3526.html; ComponentLink3Description: M08A Package Page; ComponentLink3URL: http://www.national.com/packaging/folders/m08a.html
footprint M08A_N (SOIC, 8-Leads, Body 4.9x3.9mm, Pitch 1.27mm, IPC Medium Density)
footprint M08A_L (SOIC, 8-Leads, Body 4.9x3.9mm, Pitch 1.27mm, IPC High Density)
footprint M08A_M (SOIC, 8-Leads, Body 4.9x3.9mm, Pitch 1.27mm, IPC Low Density)
pins: 1 ENA (in), 2 FLG A (oc), 3 FLG B (oc), 4 ENB (in), 5 OUT B (power), 6 GND (power), 7 IN (power), 8 OUT A (power)

## LM3526M-L
designator U?
Dual Port USB Power Switch and Over-Current Protection, 8-pin Narrow SOIC; PartNumber: LM3526M-L; Manufacturer: National Semiconductor; PackageTopMarking: NSZXTT*3526*M-L; PowerWise: N; CompType: MiscPower; Published: 4-Dec-2008; DatasheetVersion: Mar-2005; PackageVersion: revM, May-2009; PackageReference: M08A; Publisher: Altium Limited; PackageDescription: SOIC Narrow, 4.9 x 3.9 x 1.45mm, 8 Lead, 1.27mm Pitch; RoHS: N; PinCount: 8; Code_JEDEC: MS-012-AA; Code_IPC: SOIC127P600-8; ComponentLink1Description: LM3526 Datasheet; ComponentLink1URL: http://www.national.com/ds/LM/LM3526.pdf; ComponentLink2Description: LM3526 Web Page; ComponentLink2URL: http://www.national.com/pf/LM/LM3526.html; ComponentLink3Description: M08A Package Page; ComponentLink3URL: http://www.national.com/packaging/folders/m08a.html
footprint M08A_N (SOIC, 8-Leads, Body 4.9x3.9mm, Pitch 1.27mm, IPC Medium Density)
footprint M08A_L (SOIC, 8-Leads, Body 4.9x3.9mm, Pitch 1.27mm, IPC High Density)
footprint M08A_M (SOIC, 8-Leads, Body 4.9x3.9mm, Pitch 1.27mm, IPC Low Density)
pins: 1 ~{ENA} (in), 2 FLG A (oc), 3 FLG B (oc), 4 ~{ENB} (in), 5 OUT B (power), 6 GND (power), 7 IN (power), 8 OUT A (power)

## LM3526M-L/NOPB
designator U?
Dual Port USB Power Switch and Over-current Protection, 8-pin Narrow SOIC, Pb-Free; PartNumber: LM3526M-L/NOPB; Manufacturer: National Semiconductor; PackageTopMarking: NSZXTT*3526*M-L; PowerWise: N; CompType: MiscPower; Published: 1-Mar-2010; DatasheetVersion: Mar-2005; PackageVersion: revM, May-2009; PackageReference: M08A; Publisher: Altium Limited; PackageDescription: SOIC Narrow, 4.9 x 3.9 x 1.45mm, 8 Lead, 1.27mm Pitch; Supplier 1: Digi-Key; Supplier Part Number 1: LM3526M-L-ND; RoHS: Y; PinCount: 8; Code_JEDEC: MS-012-AA; Code_IPC: SOIC127P600-8; ComponentLink1Description: LM3526 Datasheet; ComponentLink1URL: http://www.national.com/ds/LM/LM3526.pdf; ComponentLink2Description: LM3526 Web Page; ComponentLink2URL: http://www.national.com/pf/LM/LM3526.html; ComponentLink3Description: M08A Package Page; ComponentLink3URL: http://www.national.com/packaging/folders/m08a.html
footprint M08A_N (SOIC, 8-Leads, Body 4.9x3.9mm, Pitch 1.27mm, IPC Medium Density)
footprint M08A_L (SOIC, 8-Leads, Body 4.9x3.9mm, Pitch 1.27mm, IPC High Density)
footprint M08A_M (SOIC, 8-Leads, Body 4.9x3.9mm, Pitch 1.27mm, IPC Low Density)
pins: 1 ~{ENA} (in), 2 FLG A (oc), 3 FLG B (oc), 4 ~{ENB} (in), 5 OUT B (power), 6 GND (power), 7 IN (power), 8 OUT A (power)

## LM3528TME/NOPB
designator U?
High Efficiency, Multi Display LED Driver with 128 Exponential Dimming Steps and Integrated OLED Power Supply, 12-pin 1.2x1.6mm Micro SMD, Pb-Free; PartNumber: LM3528TME/NOPB; Manufacturer: National Semiconductor; PackageTopMarking: XV*I SE; PowerWise: N; CompType: MiscPower; Published: 1-Mar-2010; DatasheetVersion: Aug-2008; PackageVersion: revA, 2008; PackageReference: TMD12AAA; Publisher: Altium Limited; PackageDescription: Thin Micro SMD, 12 Bump, 0.4mm Pitch; Supplier 1: Digi-Key; Supplier Part Number 1: LM3528TMETR-ND; Supplier 2: Digi-Key; Supplier Part Number 2: LM3528TMECT-ND; Supplier 3: Digi-Key; Supplier Part Number 3: LM3528TMEDKR-ND; RoHS: Y; PinCount: 12; ComponentLink1Description: LM3528 Datasheet; ComponentLink1URL: http://www.national.com/ds/LM/LM3528.pdf; ComponentLink2Description: LM3528 Web Page; ComponentLink2URL: http://www.national.com/pf/LM/LM3528.html; ComponentLink3Description: TMD12AAA Package Page; ComponentLink3URL: http://www.national.com/packaging/folders/tmd12aaa.html
footprint TMD12AAA (Micro SMD, 12-Leads, Body 1.62x1.22mm, Pitch 0.4mm, NSC Recommended)
pins: A1 OVP (in), A2 MAIN (in), A3 SUB/FB (in), B1 GPIO1 (io), B2 SCL (in), B3 SET (in), C1 HWEN/PGEN/GPIO (io), C2 SDA (io), C3 IN (power), D1 VIO (in), D2 SW (power), D3 GND (power)

## LM3528TMX/NOPB
designator U?
High Efficiency, Multi Display LED Driver with 128 Exponential Dimming Steps and Integrated OLED Power Supply, 12-pin 1.2x1.6mm Micro SMD, Pb-Free; PartNumber: LM3528TMX/NOPB; Manufacturer: National Semiconductor; PackageTopMarking: XV*I SE; PowerWise: N; CompType: MiscPower; Published: 1-Mar-2010; DatasheetVersion: Aug-2008; PackageVersion: revA, 2008; PackageReference: TMD12AAA; Publisher: Altium Limited; PackageDescription: Thin Micro SMD, 12 Bump, 0.4mm Pitch; Supplier 1: Digi-Key; Supplier Part Number 1: LM3528TMX-ND; RoHS: Y; PinCount: 12; ComponentLink1Description: LM3528 Datasheet; ComponentLink1URL: http://www.national.com/ds/LM/LM3528.pdf; ComponentLink2Description: LM3528 Web Page; ComponentLink2URL: http://www.national.com/pf/LM/LM3528.html; ComponentLink3Description: TMD12AAA Package Page; ComponentLink3URL: http://www.national.com/packaging/folders/tmd12aaa.html
footprint TMD12AAA (Micro SMD, 12-Leads, Body 1.62x1.22mm, Pitch 0.4mm, NSC Recommended)
pins: A1 OVP (in), A2 MAIN (in), A3 SUB/FB (in), B1 GPIO1 (io), B2 SCL (in), B3 SET (in), C1 HWEN/PGEN/GPIO (io), C2 SDA (io), C3 IN (power), D1 VIO (in), D2 SW (power), D3 GND (power)

## LM3535TME-2ALS/NOPB
designator U?
Multi-Display LED Driver with Ambient Light Sensing and Dynamic Backlight Control Compatibility, 20 pin MICRO SMD; PartNumber: LM3535TME-2ALS/NOPB; Manufacturer: National Semiconductor; PackageTopMarking: XYTT*I 2ALS; PowerWise: N; CompType: MiscPower; Published: 16-Nov-2010; DatasheetVersion: Aug-2010; PackageVersion: revD, 2007; PackageReference: TMD20AAA; Publisher: Altium Limited; PackageDescription: Thin Micro SMD, 20 Bump, 0.4mm Pitch; RoHS: Y; PinCount: 20; ComponentLink1Description: LM3535 Datasheet; ComponentLink1URL: http://www.national.com/ds/LM/LM3535.pdf; ComponentLink2Description: LM3535 Web Page; ComponentLink2URL: http://www.national.com/pf/LM/LM3535.html; ComponentLink3Description: TMD20AAA Package Page; ComponentLink3URL: http://www.national.com/packaging/folders/tmd20aaa.html
footprint TMD20AAA (Micro SMD, 20-Leads, Body 2.02x1.62mm, Pitch 0.4mm, NSC Recommended)
pins: A1 C1+ (in), A2 VOUT (power), A3 VIN (power), A4 GND (power), B1 C2+ (in), B2 C2- (in), B3 D1B/INT (oc), B4 D62 (oc), C1 C1- (in), C2 SDIO (io), C3 D1C/ALS (oc), C4 D53 (oc), D1 GND (power), D2 PWM (in), D3 D1A (oc), D4 D4A (oc), E1 HWEN (in), E2 SCL (in), E3 D2A (oc), E4 D3A (oc)

## LM3535TME/NOPB
designator U?
Multi-Display LED Driver with Ambient Light Sensing and Dynamic Backlight Control Compatibility, 20 pin MICRO SMD; PartNumber: LM3535TME/NOPB; Manufacturer: National Semiconductor; PackageTopMarking: XYTT*I 3535; PowerWise: N; CompType: MiscPower; Published: 16-Nov-2010; DatasheetVersion: Aug-2010; PackageVersion: revD, 2007; PackageReference: TMD20AAA; Publisher: Altium Limited; PackageDescription: Thin Micro SMD, 20 Bump, 0.4mm Pitch; RoHS: Y; PinCount: 20; ComponentLink1Description: LM3535 Datasheet; ComponentLink1URL: http://www.national.com/ds/LM/LM3535.pdf; ComponentLink2Description: LM3535 Web Page; ComponentLink2URL: http://www.national.com/pf/LM/LM3535.html; ComponentLink3Description: TMD20AAA Package Page; ComponentLink3URL: http://www.national.com/packaging/folders/tmd20aaa.html
footprint TMD20AAA (Micro SMD, 20-Leads, Body 2.02x1.62mm, Pitch 0.4mm, NSC Recommended)
pins: A1 C1+ (in), A2 VOUT (power), A3 VIN (power), A4 GND (power), B1 C2+ (in), B2 C2- (in), B3 D1B/INT (oc), B4 D62 (oc), C1 C1- (in), C2 SDIO (io), C3 D1C/ALS (oc), C4 D53 (oc), D1 GND (power), D2 PWM (in), D3 D1A (oc), D4 D4A (oc), E1 HWEN (in), E2 SCL (in), E3 D2A (oc), E4 D3A (oc)

## LM3535TMX-2ALS/NOPB
designator U?
Multi-Display LED Driver with Ambient Light Sensing and Dynamic Backlight Control Compatibility, 20 pin MICRO SMD; PartNumber: LM3535TMX-2ALS/NOPB; Manufacturer: National Semiconductor; PackageTopMarking: XYTT*I 2ALS; PowerWise: N; CompType: MiscPower; Published: 16-Nov-2010; DatasheetVersion: Aug-2010; PackageVersion: revD, 2007; PackageReference: TMD20AAA; Publisher: Altium Limited; PackageDescription: Thin Micro SMD, 20 Bump, 0.4mm Pitch; RoHS: Y; PinCount: 20; ComponentLink1Description: LM3535 Datasheet; ComponentLink1URL: http://www.national.com/ds/LM/LM3535.pdf; ComponentLink2Description: LM3535 Web Page; ComponentLink2URL: http://www.national.com/pf/LM/LM3535.html; ComponentLink3Description: TMD20AAA Package Page; ComponentLink3URL: http://www.national.com/packaging/folders/tmd20aaa.html
footprint TMD20AAA (Micro SMD, 20-Leads, Body 2.02x1.62mm, Pitch 0.4mm, NSC Recommended)
pins: A1 C1+ (in), A2 VOUT (power), A3 VIN (power), A4 GND (power), B1 C2+ (in), B2 C2- (in), B3 D1B/INT (oc), B4 D62 (oc), C1 C1- (in), C2 SDIO (io), C3 D1C/ALS (oc), C4 D53 (oc), D1 GND (power), D2 PWM (in), D3 D1A (oc), D4 D4A (oc), E1 HWEN (in), E2 SCL (in), E3 D2A (oc), E4 D3A (oc)

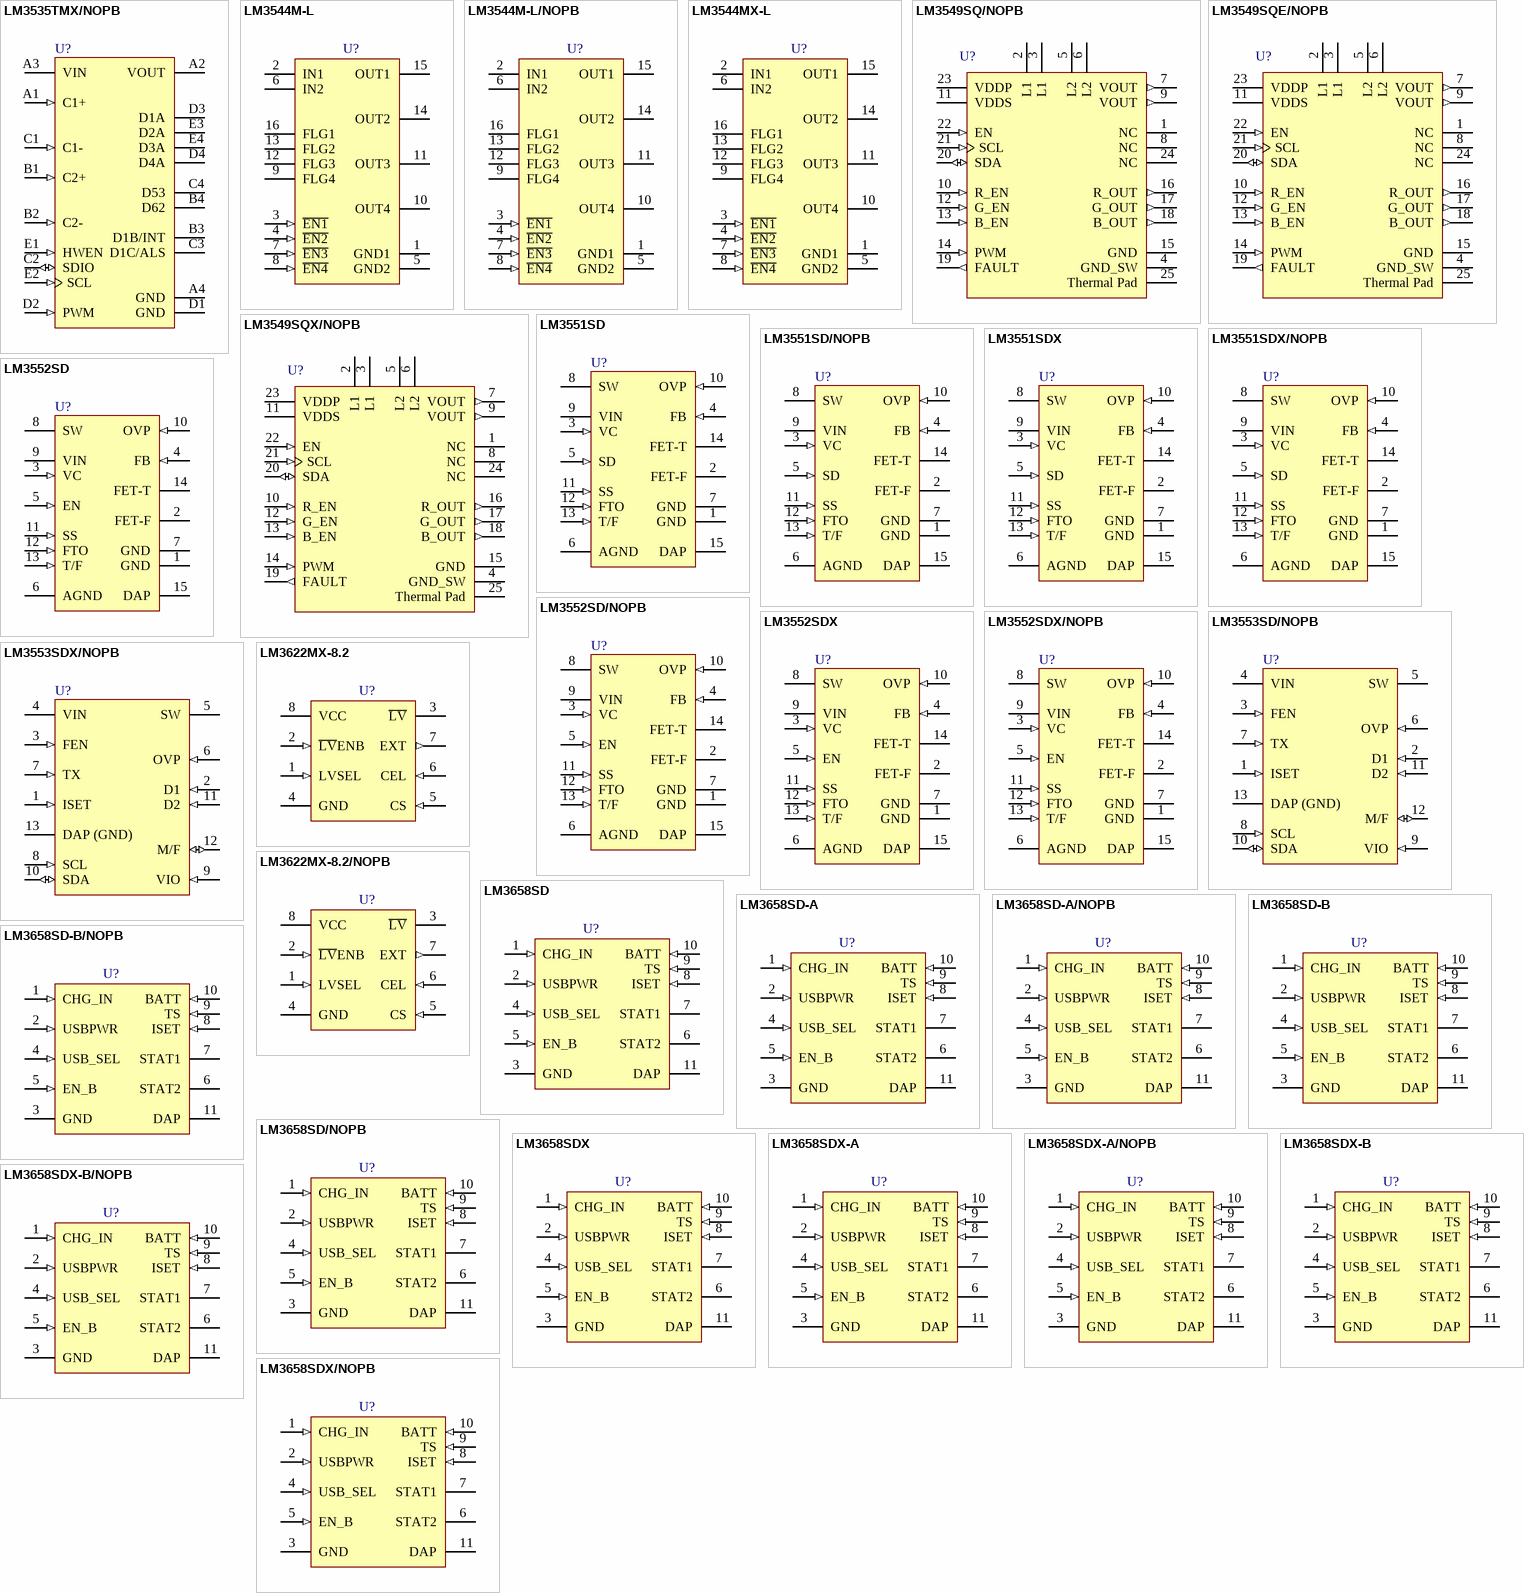
[diagram p16: symbols LM3535TMX/NOPB to LM3658SDX/NOPB]

## LM3535TMX/NOPB
designator U?
Multi-Display LED Driver with Ambient Light Sensing and Dynamic Backlight Control Compatibility, 20 pin MICRO SMD; PartNumber: LM3535TMX/NOPB; Manufacturer: National Semiconductor; PackageTopMarking: XYTT*I 3535; PowerWise: N; CompType: MiscPower; Published: 16-Nov-2010; DatasheetVersion: Aug-2010; PackageVersion: revD, 2007; PackageReference: TMD20AAA; Publisher: Altium Limited; PackageDescription: Thin Micro SMD, 20 Bump, 0.4mm Pitch; RoHS: Y; PinCount: 20; ComponentLink1Description: LM3535 Datasheet; ComponentLink1URL: http://www.national.com/ds/LM/LM3535.pdf; ComponentLink2Description: LM3535 Web Page; ComponentLink2URL: http://www.national.com/pf/LM/LM3535.html; ComponentLink3Description: TMD20AAA Package Page; ComponentLink3URL: http://www.national.com/packaging/folders/tmd20aaa.html
footprint TMD20AAA (Micro SMD, 20-Leads, Body 2.02x1.62mm, Pitch 0.4mm, NSC Recommended)
pins: A1 C1+ (in), A2 VOUT (power), A3 VIN (power), A4 GND (power), B1 C2+ (in), B2 C2- (in), B3 D1B/INT (oc), B4 D62 (oc), C1 C1- (in), C2 SDIO (io), C3 D1C/ALS (oc), C4 D53 (oc), D1 GND (power), D2 PWM (in), D3 D1A (oc), D4 D4A (oc), E1 HWEN (in), E2 SCL (in), E3 D2A (oc), E4 D3A (oc)

## LM3544M-L
designator U?
Quad Port USB Power Distribution Switch and Over-Current Protection, 16-pin Narrow SOIC; PartNumber: LM3544M-L; Manufacturer: National Semiconductor; PackageTopMarking: NSUZXYTTE#*LM3544M-L; PowerWise: N; CompType: MiscPower; Published: 4-Dec-2008; DatasheetVersion: Apr-2005; PackageVersion: revJ, Aug-1995; PackageReference: M16A; Publisher: Altium Limited; PackageDescription: Molded Package, SO, .150in Wide, 16 Lead; RoHS: N; PinCount: 16; Code_JEDEC: MS-012-AC; Code_IPC: SOIC127P600-16; ComponentLink1Description: LM3544 Datasheet; ComponentLink1URL: http://www.national.com/ds/LM/LM3544.pdf; ComponentLink2Description: LM3544 Web Page; ComponentLink2URL: http://www.national.com/pf/LM/LM3544.html; ComponentLink3Description: M16A Package Page; ComponentLink3URL: http://www.national.com/packaging/folders/m16a.html
footprint M16A_N (SOIC, 16-Leads, Body 9.9x3.9mm, Pitch 1.27mm, IPC Medium Density)
footprint M16A_L (SOIC, 16-Leads, Body 9.9x3.9mm, Pitch 1.27mm, IPC High Density)
footprint M16A_M (SOIC, 16-Leads, Body 9.9x3.9mm, Pitch 1.27mm, IPC Low Density)
pins: 1 GND1 (power), 2 IN1 (power), 3 ~{EN1} (in), 4 ~{EN2} (in), 5 GND2 (power), 6 IN2 (power), 7 ~{EN3} (in), 8 ~{EN4} (in), 9 FLG4 (oc), 10 OUT4 (power), 11 OUT3 (power), 12 FLG3 (oc), 13 FLG2 (oc), 14 OUT2 (power), 15 OUT1 (power), 16 FLG1 (oc)

## LM3544M-L/NOPB
designator U?
Quad Port USB Power Distribution Switch and Over-Current Protection, 16-pin Narrow SOIC, Pb-Free; PartNumber: LM3544M-L/NOPB; Manufacturer: National Semiconductor; PackageTopMarking: NSUZXYTTE#*LM3544M-L; PowerWise: N; CompType: MiscPower; Published: 1-Mar-2010; DatasheetVersion: Apr-2005; PackageVersion: revJ, Aug-1995; PackageReference: M16A; Publisher: Altium Limited; PackageDescription: Molded Package, SO, .150in Wide, 16 Lead; Supplier 1: Digi-Key; Supplier Part Number 1: LM3544M-L-ND; RoHS: Y; PinCount: 16; Code_JEDEC: MS-012-AC; Code_IPC: SOIC127P600-16; ComponentLink1Description: LM3544 Datasheet; ComponentLink1URL: http://www.national.com/ds/LM/LM3544.pdf; ComponentLink2Description: LM3544 Web Page; ComponentLink2URL: http://www.national.com/pf/LM/LM3544.html; ComponentLink3Description: M16A Package Page; ComponentLink3URL: http://www.national.com/packaging/folders/m16a.html
footprint M16A_N (SOIC, 16-Leads, Body 9.9x3.9mm, Pitch 1.27mm, IPC Medium Density)
footprint M16A_L (SOIC, 16-Leads, Body 9.9x3.9mm, Pitch 1.27mm, IPC High Density)
footprint M16A_M (SOIC, 16-Leads, Body 9.9x3.9mm, Pitch 1.27mm, IPC Low Density)
pins: 1 GND1 (power), 2 IN1 (power), 3 ~{EN1} (in), 4 ~{EN2} (in), 5 GND2 (power), 6 IN2 (power), 7 ~{EN3} (in), 8 ~{EN4} (in), 9 FLG4 (oc), 10 OUT4 (power), 11 OUT3 (power), 12 FLG3 (oc), 13 FLG2 (oc), 14 OUT2 (power), 15 OUT1 (power), 16 FLG1 (oc)

## LM3544MX-L
designator U?
Quad Port USB Power Distribution Switch and Over-Current Protection, 16-pin Narrow SOIC; PartNumber: LM3544MX-L; Manufacturer: National Semiconductor; PackageTopMarking: NSUZXYTTE#*LM3544M-L; PowerWise: N; CompType: MiscPower; Published: 1-Mar-2010; DatasheetVersion: Apr-2005; PackageVersion: revJ, Aug-1995; PackageReference: M16A; Publisher: Altium Limited; PackageDescription: Molded Package, SO, .150in Wide, 16 Lead; RoHS: N; PinCount: 16; Code_JEDEC: MS-012-AC; Code_IPC: SOIC127P600-16; ComponentLink1Description: LM3544 Datasheet; ComponentLink1URL: http://www.national.com/ds/LM/LM3544.pdf; ComponentLink2Description: LM3544 Web Page; ComponentLink2URL: http://www.national.com/pf/LM/LM3544.html; ComponentLink3Description: M16A Package Page; ComponentLink3URL: http://www.national.com/packaging/folders/m16a.html
footprint M16A_N (SOIC, 16-Leads, Body 9.9x3.9mm, Pitch 1.27mm, IPC Medium Density)
footprint M16A_L (SOIC, 16-Leads, Body 9.9x3.9mm, Pitch 1.27mm, IPC High Density)
footprint M16A_M (SOIC, 16-Leads, Body 9.9x3.9mm, Pitch 1.27mm, IPC Low Density)
pins: 1 GND1 (power), 2 IN1 (power), 3 ~{EN1} (in), 4 ~{EN2} (in), 5 GND2 (power), 6 IN2 (power), 7 ~{EN3} (in), 8 ~{EN4} (in), 9 FLG4 (oc), 10 OUT4 (power), 11 OUT3 (power), 12 FLG3 (oc), 13 FLG2 (oc), 14 OUT2 (power), 15 OUT1 (power), 16 FLG1 (oc)

## LM3549SQ/NOPB
designator U?
High Power Sequential LED Driver, 24 pin LLP; PartNumber: LM3549SQ/NOPB; Manufacturer: National Semiconductor; PackageTopMarking: NS*UZXYTT*L3549SQ; PowerWise: N; CompType: MiscPower; Published: 16-Nov-2010; DatasheetVersion: Aug-2010; PackageVersion: revB, Aug-2003; PackageReference: SQA24A; Publisher: Altium Limited; PackageDescription: LLP, Plastic, Quad, 4 x 4 x 0.8mm Body, 24 Lead, 0.5mm Pitch, No Pullback; RoHS: Y; PinCount: 24; Code_JEDEC: MO-220-WGGD-6; ComponentLink1Description: LM3549 Datasheet; ComponentLink1URL: http://www.national.com/ds/LM/LM3549.pdf; ComponentLink2Description: LM3549 Web Page; ComponentLink2URL: http://www.national.com/pf/LM/LM3549.html; ComponentLink3Description: SQA24A Package Page; ComponentLink3URL: http://www.national.com/packaging/folders/sqa24a.html
footprint SQA24A (QFN, 24-Leads, Body 4x4mm, Pitch 0.5mm, NSC Recommended)
pins: 1 NC, 2 L1, 3 L1, 4 GND_SW (power), 5 L2, 6 L2, 7 VOUT (out), 8 NC, 9 VOUT (out), 10 R_EN (in), 11 VDDS (power), 12 G_EN (in), 13 B_EN (in), 14 PWM (in), 15 GND (power), 16 R_OUT (out), 17 G_OUT (out), 18 B_OUT (out), 19 FAULT (out), 20 SDA (io), 21 SCL (in), 22 EN (in), 23 VDDP (power), 24 NC, 25 Thermal Pad (power)

## LM3549SQE/NOPB
designator U?
High Power Sequential LED Driver, 24 pin LLP; PartNumber: LM3549SQE/NOPB; Manufacturer: National Semiconductor; PackageTopMarking: NS*UZXYTT*L3549SQ; PowerWise: N; CompType: MiscPower; Published: 16-Nov-2010; DatasheetVersion: Aug-2010; PackageVersion: revB, Aug-2003; PackageReference: SQA24A; Publisher: Altium Limited; PackageDescription: LLP, Plastic, Quad, 4 x 4 x 0.8mm Body, 24 Lead, 0.5mm Pitch, No Pullback; RoHS: Y; PinCount: 24; Code_JEDEC: MO-220-WGGD-6; ComponentLink1Description: LM3549 Datasheet; ComponentLink1URL: http://www.national.com/ds/LM/LM3549.pdf; ComponentLink2Description: LM3549 Web Page; ComponentLink2URL: http://www.national.com/pf/LM/LM3549.html; ComponentLink3Description: SQA24A Package Page; ComponentLink3URL: http://www.national.com/packaging/folders/sqa24a.html
footprint SQA24A (QFN, 24-Leads, Body 4x4mm, Pitch 0.5mm, NSC Recommended)
pins: 1 NC, 2 L1, 3 L1, 4 GND_SW (power), 5 L2, 6 L2, 7 VOUT (out), 8 NC, 9 VOUT (out), 10 R_EN (in), 11 VDDS (power), 12 G_EN (in), 13 B_EN (in), 14 PWM (in), 15 GND (power), 16 R_OUT (out), 17 G_OUT (out), 18 B_OUT (out), 19 FAULT (out), 20 SDA (io), 21 SCL (in), 22 EN (in), 23 VDDP (power), 24 NC, 25 Thermal Pad (power)

## LM3549SQX/NOPB
designator U?
High Power Sequential LED Driver, 24 pin LLP; PartNumber: LM3549SQX/NOPB; Manufacturer: National Semiconductor; PackageTopMarking: NS*UZXYTT*L3549SQ; PowerWise: N; CompType: MiscPower; Published: 16-Nov-2010; DatasheetVersion: Aug-2010; PackageVersion: revB, Aug-2003; PackageReference: SQA24A; Publisher: Altium Limited; PackageDescription: LLP, Plastic, Quad, 4 x 4 x 0.8mm Body, 24 Lead, 0.5mm Pitch, No Pullback; RoHS: Y; PinCount: 24; Code_JEDEC: MO-220-WGGD-6; ComponentLink1Description: LM3549 Datasheet; ComponentLink1URL: http://www.national.com/ds/LM/LM3549.pdf; ComponentLink2Description: LM3549 Web Page; ComponentLink2URL: http://www.national.com/pf/LM/LM3549.html; ComponentLink3Description: SQA24A Package Page; ComponentLink3URL: http://www.national.com/packaging/folders/sqa24a.html
footprint SQA24A (QFN, 24-Leads, Body 4x4mm, Pitch 0.5mm, NSC Recommended)
pins: 1 NC, 2 L1, 3 L1, 4 GND_SW (power), 5 L2, 6 L2, 7 VOUT (out), 8 NC, 9 VOUT (out), 10 R_EN (in), 11 VDDS (power), 12 G_EN (in), 13 B_EN (in), 14 PWM (in), 15 GND (power), 16 R_OUT (out), 17 G_OUT (out), 18 B_OUT (out), 19 FAULT (out), 20 SDA (io), 21 SCL (in), 22 EN (in), 23 VDDP (power), 24 NC, 25 Thermal Pad (power)